# Altium footprint library TSX-3225.PcbLib: 1 footprints
Each footprint in its own frame and in the unit in brackets; x right, y up, seen from the top. Pads: shape width x height; smd on the part's side, far side on the other; paste and mask are expansions set on the pad; w line width, h text height; cw(c..) or ccw(c..) is an arc to the next point about the centre after c.
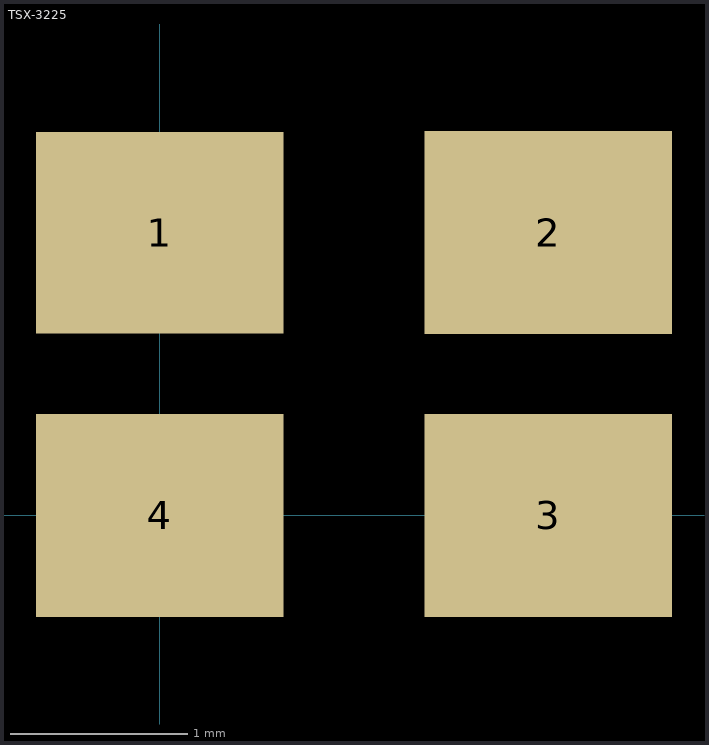
[diagram p0: the footprint, top view; thin cyan lines are the x and y axes]

## TSX-3225 [mm] "SMT Shielded Crystal"
pads (4):
  rect 1.4x1.14 smd: 1(0,1.6)
  rect 1.4x1.15 smd: 2(2.2,1.6) 3(2.2,0) 4(0,0)